# EAGLE library part LT4356MS-* (library ic-LT)
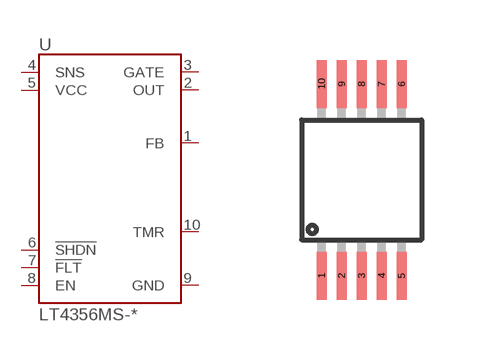
[diagram p12: symbol with the pads of MSOP10; footprint MSOP10]

Designator prefix U

## LT4356MS-1, LT4356MS-2, LT4356MS-3  [MSOP10]
1  FB
2  OUT
3  GATE
4  SNS
5  VCC
6  !SHDN
7  !FLT
8  EN
9  GND
10  TMR

## Footprint MSOP10 (pad centres in mm)
smd 0.25 x 1.2: 1 -1,-2.4; 2 -0.5,-2.4; 3 0,-2.4; 4 0.5,-2.4; 5 1,-2.4; 6 1,2.4; 7 0.5,2.4; 8 0,2.4; 9 -0.5,2.4; 10 -1,2.4